# EAGLE library part HCPL-7800A500 (library Avago_By_element14_Batch_1)
Isolation Amplifer
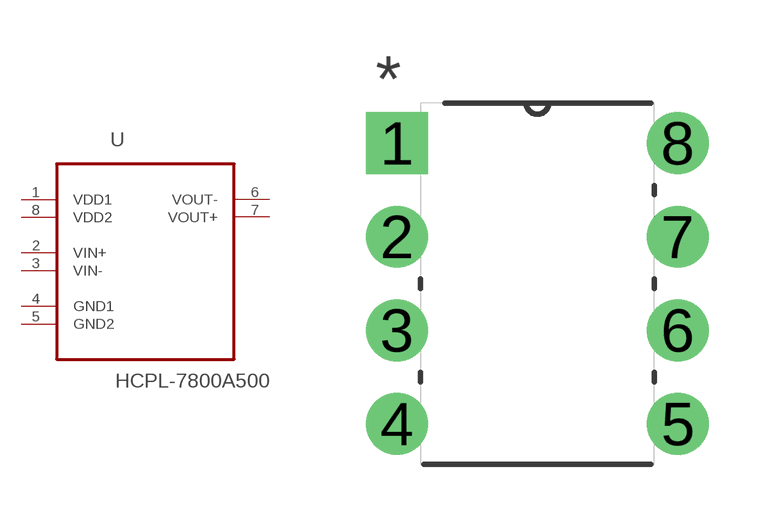
[diagram p15: symbol with the pads of DIP254P762X470-8; footprint DIP254P762X470-8]

Designator prefix U

## HCPL-7800A500 (DESCRIPTION: Isolation Amplifer; MPN: HCPL-7800A#500; OC_FARNELL: -; OC_NEWARK: 05M6395; PACKAGE: DIP-8; SUPPLIER: AVAGO TECHNOLOGIES)  [DIP254P762X470-8]
1  VDD1  pwr
2  VIN+  in
3  VIN-  in
4  GND1  pas
5  GND2  pas
6  VOUT-  out
7  VOUT+  out
8  VDD2  pwr

## Footprint DIP254P762X470-8 (pad centres in mm)
drill 1.118 square: 1 -7.62,7.62
drill 1.118: 2 -7.62,5.08; 3 -7.62,2.54; 4 -7.62,0; 5 0,0; 6 0,2.54; 7 0,5.08; 8 0,7.62